# Altium footprint library PQFN50P300X400X80_HS-21N.PcbLib: 1 footprints
Each footprint in its own frame and in the unit in brackets; x right, y up, seen from the top. Pads: shape width x height; smd on the part's side, far side on the other; paste and mask are expansions set on the pad; w line width, h text height; cw(c..) or ccw(c..) is an arc to the next point about the centre after c.
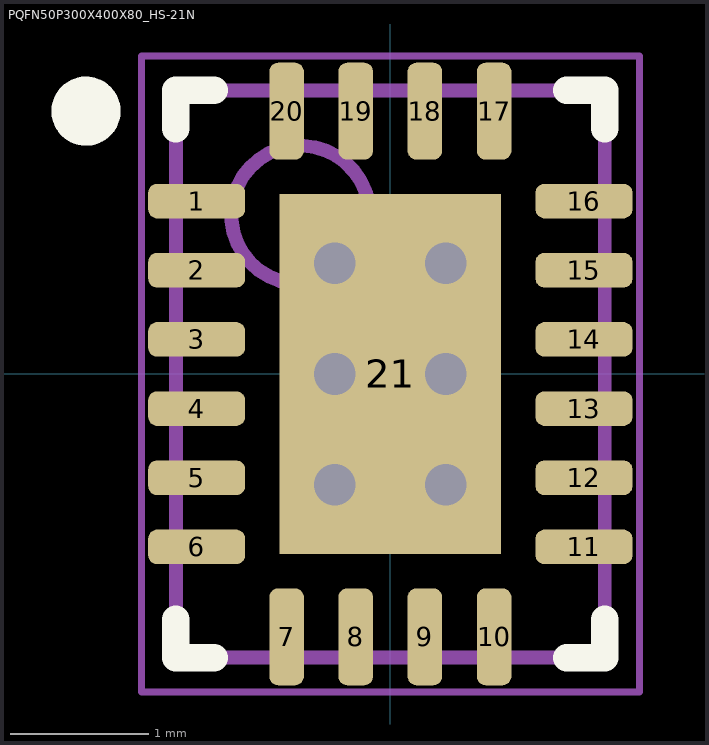
[diagram p0: the footprint, top view; thin cyan lines are the x and y axes]

## PQFN50P300X400X80_HS-21N [mm] "PQFN, 20-Leads, Body 3,00x4,00mm, Pitch 0,50mm, Thermal Pad 1,60x2,60mm, IPC Medium Density"
height 0.8
pads (21):
  rrect50% 0.7x0.25 smd: 1(-1.4,1.25) 2(-1.4,0.75) 3(-1.4,0.25) 4(-1.4,-0.25) 5(-1.4,-0.75) 6(-1.4,-1.25) 11(1.4,-1.25) 12(1.4,-0.75) 13(1.4,-0.25) 14(1.4,0.25) 15(1.4,0.75) 16(1.4,1.25)
  rrect50% 0.25x0.7 smd: 7(-0.75,-1.9) 8(-0.25,-1.9) 9(0.25,-1.9) 10(0.75,-1.9) 17(0.75,1.9) 18(0.25,1.9) 19(-0.25,1.9) 20(-0.75,1.9)
  rect 1.6x2.6 smd: 21(0,0)
via 0.4,0.8 diameter 0.6 hole 0.3
via -0.4,0.8 diameter 0.6 hole 0.3
via -0.4,0 diameter 0.6 hole 0.3
via 0.4,-0.8 diameter 0.6 hole 0.3
via 0.4,0 diameter 0.6 hole 0.3
via -0.4,-0.8 diameter 0.6 hole 0.3
Top Overlay:
  circle w0.25: c-2.2,1.9 r0.125
  lines w0.2: -1.55,-1.775 -1.55,-2.05 -1.275,-2.05 ; -1.55,1.775 -1.55,2.05 -1.275,2.05 ; 1.275,-2.05 1.55,-2.05 1.55,-1.775 ; 1.275,2.05 1.55,2.05 1.55,1.775
13:
  circle w0.1: c-0.65,1.15 r0.5
  lines w0.1: -1.55,-2.05 -1.55,2.05 1.55,2.05 1.55,-2.05 -1.55,-2.05
Mechanical 15:
  lines w0.05: -1.8,-2.3 -1.8,2.3 1.8,2.3 1.8,-2.3 -1.8,-2.3
  lines w0.1: -0.5,0 0.5,0 ; 0,-0.5 0,0.5
3D body "User Library-WQFN20.step": height 0.8, standoff 0, extent -1.55,-2.05 1.55,2.05